# EAGLE library part TS12864A (library superioradafruit)
KS0108 based display. Some have slightly different pinouts so double check!
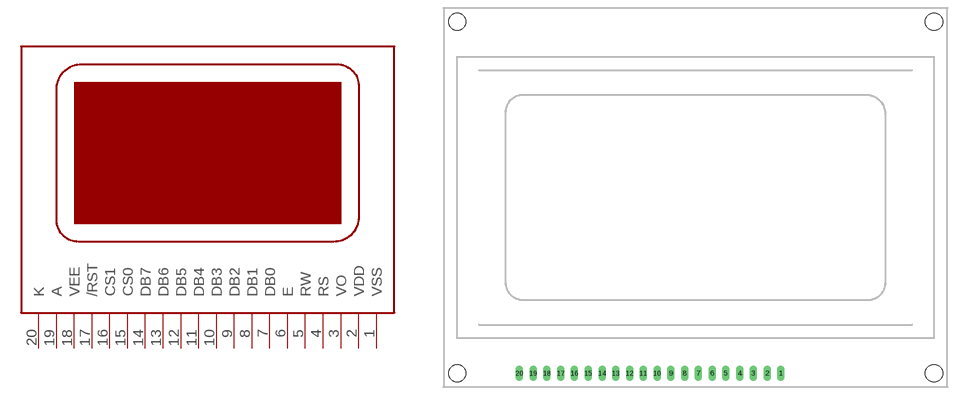
[diagram p10: symbol with the pads of TS12864; footprint TS12864]

Designator prefix -

## TS12864A  [TS12864]
1  VSS  sup
2  VDD  sup
3  VO  in
4  RS  in
5  RW  in
6  E  in
7  DB0
8  DB1
9  DB2
10  DB3
11  DB4
12  DB5
13  DB6
14  DB7
15  CS0  in
16  CS1  in
17  /RST  in
18  VEE  sup
19  A  sup
20  K  in

## Footprint TS12864 (pad centres in mm)
drill 0.9 long: 1 48.26,0; 2 45.72,0; 3 43.18,0; 4 40.64,0; 5 38.1,0; 6 35.56,0; 7 33.02,0; 8 30.48,0; 9 27.94,0; 10 25.4,0; 11 22.86,0; 12 20.32,0; 13 17.78,0; 14 15.24,0; 15 12.7,0; 16 10.16,0; 17 7.62,0; 18 5.08,0; 19 2.54,0; 20 0,0
hole 3.2 at -11.5,65
hole 3.2 at 76.5,65
hole 3.2 at -11.5,0
hole 3.2 at 76.5,0